# Altium schematic symbol library SCH - POWER - MODULE - PowerIntegrations - LNK4023D-TL.SCHLIB: 1 symbol
Pins are listed as number, name and electrical type; pins without a type are passive.

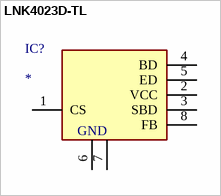
[diagram p0: symbol LNK4023D-TL]

## LNK4023D-TL
designator IC?
Integrated Circuit; Manufacturer_Name: Power Integrations; Manufacturer_Part_Number: LNK4023D-TL; Description: AC/DC Converters 10 W 85-265 VAC CV/CC Switcher; Datasheet Link: https://ac-dc.power.com/sites/default/files/product-docs/linkswitch-4_family_datasheet.pdf; Height: 1.75mm; Mouser Part Number: 869-LNK4023D-TL; Mouser Price/Stock: https://www.mouser.co.uk/ProductDetail/Power-Integrations/LNK4023D-TL?qs=yurkJaUu%252BRKK8st%252Bp2BM1w%3D%3D
pins: 1 CS, 2 VCC, 3 SBD, 4 BD, 5 ED, 6 GND_1, 7 GND_2, 8 FB
text: GND